# EAGLE library part HDSP-*1 (library LED displeje)
LED displej 14,2 mm
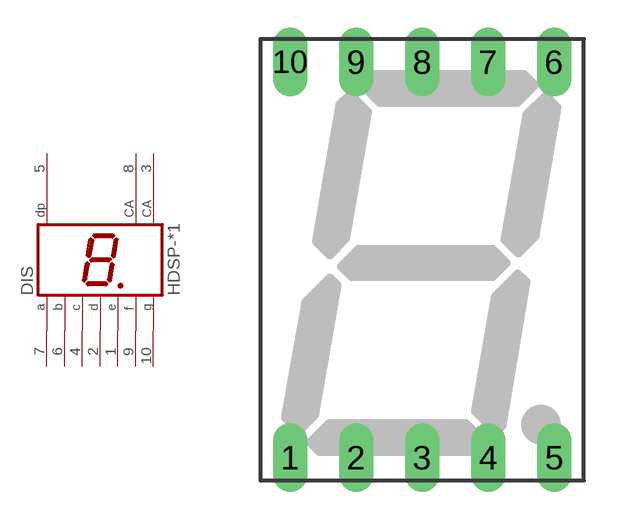
[diagram p51: symbol with the pads of HDSP-M; footprint HDSP-M]

Designator prefix DIS

## HDSP-5501, HDSP-5601, HDSP-5701, HDSP-H101, HDSP-H151, HDSP-H511  [HDSP-M]
1  E  pas
2  D  pas
3  CA  pas
4  C  pas
5  DP  pas
6  B  pas
7  A  pas
8  CA  pas
9  F  pas
10  G  pas

## Footprint HDSP-M (pad centres in mm)
LED DISPLAY 15-mm 1 character 7 segment, decimal point right
drill 0.813 long: 1 -5.08,-7.62; 2 -2.54,-7.62; 3 0,-7.62; 4 2.54,-7.62; 5 5.08,-7.62; 6 5.08,7.62; 7 2.54,7.62; 8 0,7.62; 9 -2.54,7.62; 10 -5.08,7.62